# Altium integrated library 52991-0208.IntLib: 1 symbol
Pins are listed as number, name and electrical type; pins without a type are passive.

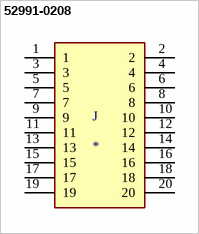
[diagram p0: symbol 52991-0208]

## 52991-0208
designator J
20 Position Connector Receptacle, Center Strip Contacts Surface Mount Gold; MP: 52991-0208; MF: Molex; SnapEDA_Link: https://www.snapeda.com/parts/52991-0208/Molex/view-part/230631/?ref=snap; Availability: Unavailable; Price: None; Package: None; Value: *
footprint MOLEX_52991-0208
pins: 1, 2, 3, 4, 5, 6, 7, 8, 9, 10, 11, 12, 13, 14, 15, 16, 17, 18, 19, 20